# Altium footprint library F 发光管.PCBLIB: 40 footprints (part 2 of 3)
Each footprint in its own frame and in the unit in brackets; x right, y up, seen from the top. Pads: shape width x height; smd on the part's side, far side on the other; paste and mask are expansions set on the pad; w line width, h text height; cw(c..) or ccw(c..) is an arc to the next point about the centre after c.
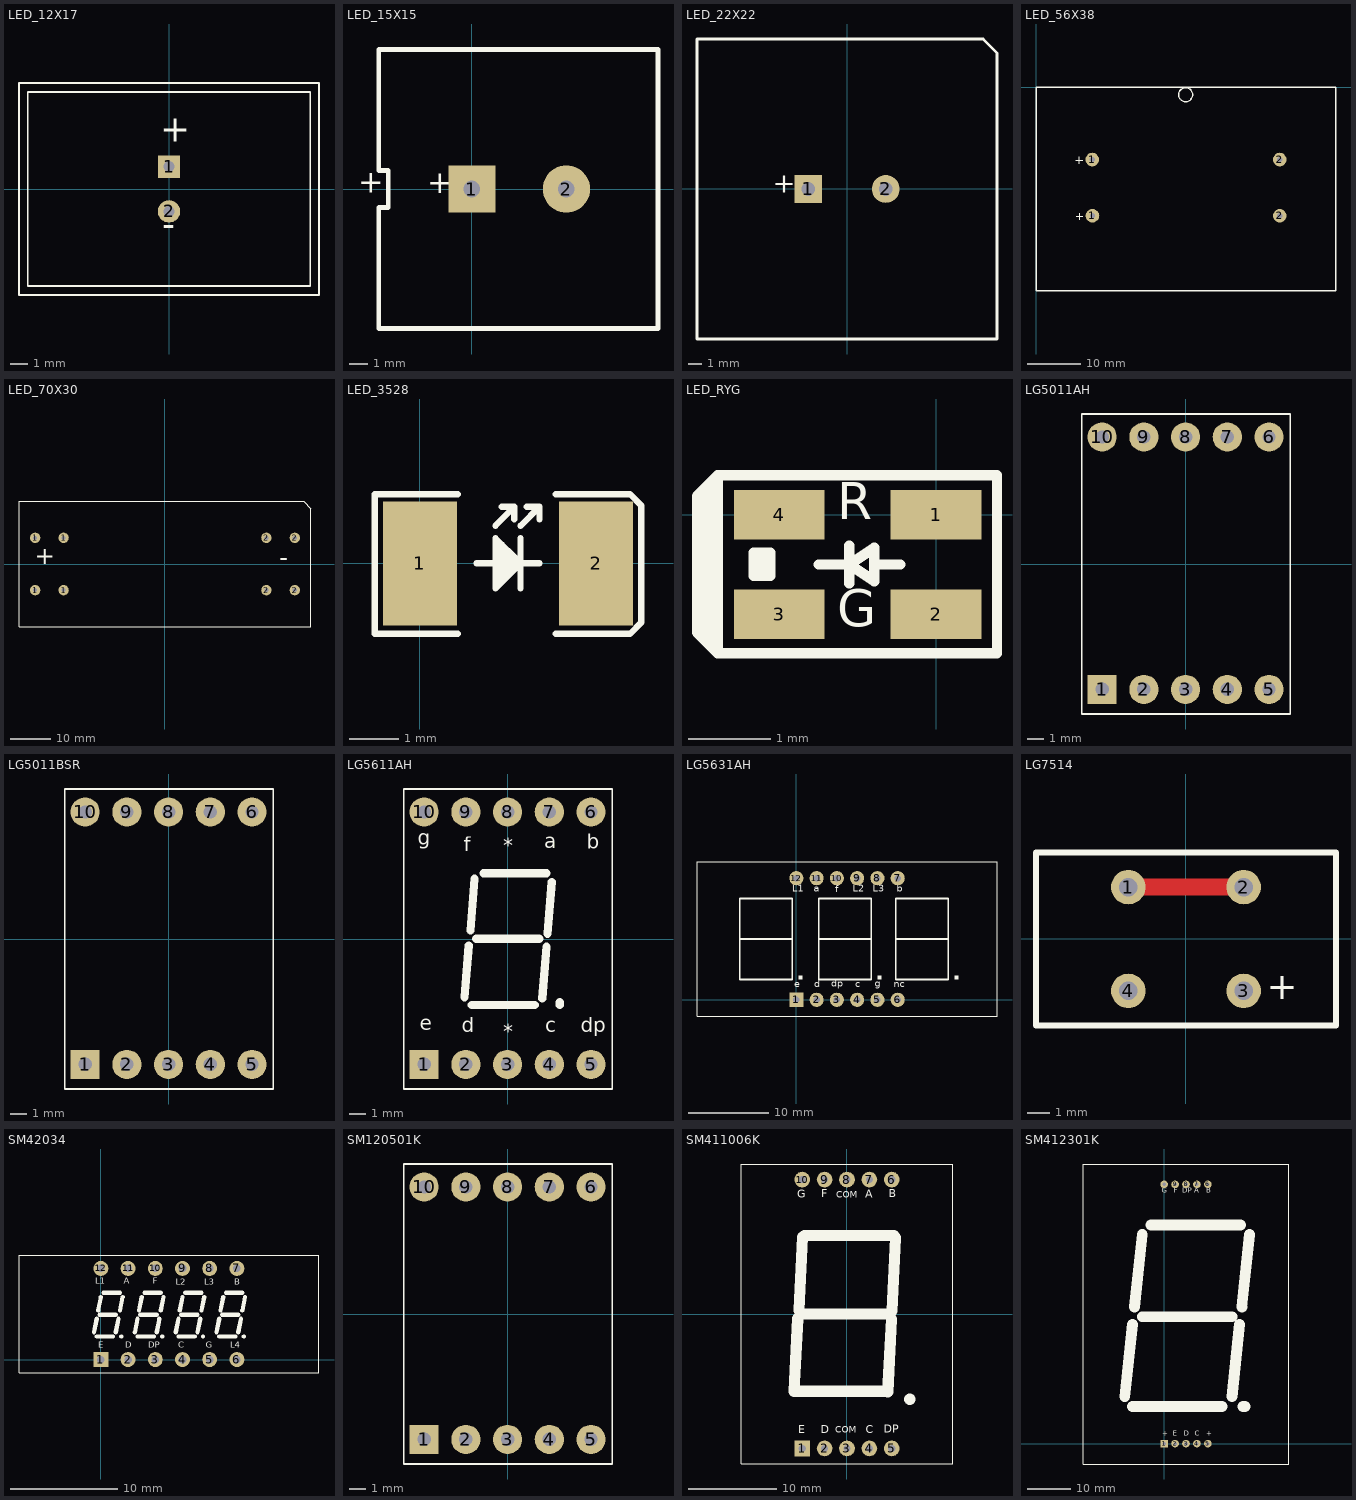
[diagram p1: the footprints below, top view; thin cyan lines are the x and y axes]

## LED_12X17 [mil] "平面发光管/长17mm/宽12mm/高10mm/"
height 393.7
pads (2):
  rect 50x50 hole 25: 1(0,50)
  round 50 hole 25: 2(0,-50)
Top Overlay:
  lines w4.02: -334.65,-236.22 -334.65,236.22 334.65,236.22 334.65,-236.22 -334.65,-236.22 ; -314.96,-216.54 -314.96,216.54 314.96,216.54 314.96,-216.54 -314.96,-216.54
  text "-" at -15,-125 h100
  text "+" at -20,85 h100

## LED_15X15 [mil] "平面发光管/长15mm/宽15mm/高11mm"
height 433.07
pads (2):
  rect 100x100 hole 35: 1(0,0)
  round 100 hole 35: 2(200,0)
Top Overlay:
  lines w10: -196.85,-295.28 -196.85,-39.37 -177.17,-39.37 -177.17,39.37 -196.85,39.37 -196.85,295.28 98.43,295.28 393.7,295.28 393.7,0 393.7,-295.28 98.43,-295.28 -196.85,-295.28
  text "+" at -95,-25 h80
  text "+" at -241,-24 h80
Bottom Overlay:
  text "+" at -62,-24 h80

## LED_22X22 [mil] "LED平面发光管/长22mm/宽22mm/高8mm"
height 314.96
pads (2):
  rect 80x80 hole 40: 1(-111.81,0)
  round 80 hole 40: 2(111.81,0)
Top Overlay:
  lines w7.87: -433.07,-433.07 433,-433.07 433,392 393,433 -433.07,433 -433.07,-433.07
  text "+" at -214,-31 h100
Bottom Overlay:
  text "+" at -173,-30 h100

## LED_56X38 [mm] "LED平面发光管/长56mm/宽38mm/高mm"
pads (4):
  round 2.54 hole 1: 1(10.5,-13.5) 1(10.541,-24) 2(45.5,-24) 2(45.5,-13.5)
Top Overlay:
  circle w0.254: c27.94,-1.397 r1.308
  lines w0.127: 7.452,-13.627 8.722,-13.627 ; 7.493,-24.127 8.763,-24.127 ; 8.087,-14.262 8.087,-12.992 ; 8.128,-24.762 8.128,-23.492
  lines w0.254: 0,-38 56,-38 56,0 0,0 0,-38

## LED_70X30 [mm] "平面发光管/长70mm/宽30mm/高8mm"
height 8
pads (8):
  round 2.54 hole 1: 1(-32,-6.45) 1(-32,6.45) 1(-25,-6.45) 1(-25,6.45) 2(25,-6.45) 2(25,6.45) 2(32,6.45) 2(32,-6.45)
Top Overlay:
  lines w0.254: -36,-15.45 -36,15.45 34.207,15.45 36,13.657 36,-15.45 -36,-15.45
  text "+" at -27.076,-1.524 h7.62
  text "-" at 30.353,-1.905 h7.62
Bottom Overlay:
  text "+" at -30.328,-1.499 h7.62
  text "-" at 28.499,-1.93 h7.62

## LED_3528 [mm] "贴片发光二极管/旧型号3528"
pads (2):
  rect 1.5x2.5 smd: 1(0,0) 2(3.556,0)
Top Overlay:
  lines w0.127: 0.762,-1.422 -0.914,-1.422 -0.914,1.397 0.762,1.397 ; 1.143,0 2.413,0 ; 1.524,0.762 1.905,1.143 ; 1.651,-0.381 1.651,0.381 ; 1.651,1.143 1.905,1.143 ; 1.778,-0.254 1.778,0.254 ; 1.905,-0.127 1.905,0.127 ; 1.905,0.889 1.905,1.143 ; 2.032,-0.508 2.032,0.508 ; 2.032,0.762 2.413,1.143 ; 2.159,1.143 2.413,1.143 ; 2.413,0.889 2.413,1.143 ; 2.743,-1.422 4.242,-1.422 4.47,-1.194 4.47,1.168 4.242,1.397 2.743,1.397 ; 1.524,-0.508 2.032,0 1.524,0.508 1.524,-0.508

## LED_RYG [mm] "发光二极管/双色/贴片"
pads (4):
  rect 1.1x0.6 smd: 1(0,0) 2(0,-1.2) 3(-1.9,-1.2) 4(-1.9,0)
Top Overlay:
  lines w0.127: -2.769,-1.549 -2.769,0.356 ; -2.108,-0.737 -2.108,-0.457 ; -1.422,-0.6 -1.05,-0.6 ; -1.05,-0.375 -1.05,-0.825 -1.05,-0.6 ; -0.75,-0.6 -0.432,-0.6 ; -2.642,-1.676 -2.642,0.483 ; -2.642,-1.676 0.737,-1.676 0.737,0.483 -2.642,0.483 ; -2.642,-1.676 -2.896,-1.422 -2.896,0.229 -2.642,0.483 ; -1.05,-0.6 -0.75,-0.4 -0.75,-0.8 -1.05,-0.6 ; -2.21,-0.737 -2.007,-0.737 -2.007,-0.457 -2.21,-0.457 -2.21,-0.737
  text "G" at -1.2,-1.5 h0.76
  text "R" at -1.2,-0.2 h0.76

## LG5011AH [mil] "8段1位数码管/共阴/红色"
height 179.92
pads (10):
  rect 70x70 hole 32: 1(-200,-300)
  round 70 hole 32: 2(-100,-300) 3(0,-300) 4(100,-300) 5(200,-300) 6(200,305) 7(100,305) 8(0,305) 9(-100,305) 10(-200,305)
Top Overlay:
  lines w4: -249,-359 251,-359 251,360 -249,360 -249,-358

## LG5011BSR [mil] "8段1位数码管/共阳/"
pads (10):
  rect 70x70 hole 32: 1(-200,-300)
  round 70 hole 32: 2(-100,-300) 3(0,-300) 4(100,-300) 5(200,-300) 6(200,305) 7(100,305) 8(0,305) 9(-100,305) 10(-200,305)
Top Overlay:
  lines w4: -249,-359 251,-359 251,360 -249,360 -249,-358

## LG5611AH [mil] "8段1位数码管/共阴/"
height 220.47
pads (10):
  rect 70x70 hole 32: 1(-200,-300)
  round 70 hole 32: 2(-100,-300) 3(0,-300) 4(100,-300) 5(200,-300) 6(200,305) 7(100,305) 8(0,305) 9(-100,305) 10(-200,305)
Top Overlay:
  lines w4: -249,-359 251,-359 251,360 -249,360 -249,-358
  lines w10: -50,0 50,0
  lines w19.68: -103,-139 -93,-15 ; -89,21 -79,145 ; -86,-158 65,-158 ; -75,1 -37.25,1 38.25,1 76,1 ; -58,158 93,158 ; 83,-142 93,-18 ; 96,13 106,137 ; 125,-158 125,-151
  text "e" at -210,-230 h60
  text "f" at -105,200 h60
  text "dp" at 175,-235 h60
  text "c" at 90,-235 h60
  text "d" at -110,-235 h60
  text "b" at 190,205 h60
  text "a" at 88,206 h60
  text "*" at -10,-250 h60
  text "*" at -10,195 h60
  text "g" at -215,215 h60

## LG5631AH [mil] "8段3位数码管/共阴"
pads (12):
  rect 70x70 hole 32: 1(0,0)
  round 70 hole 32: 2(100,0) 3(200,0) 4(300,0) 5(400,0) 6(500,0) 7(500,600) 8(400,600) 9(300,600) 10(200,600) 11(100,600) 12(0,600)
Top Overlay:
  rectangle: 780,99.99 800,119.99
  rectangle: 400,99.99 420,119.99
  rectangle: 10,99.99 30,119.99
  lines w4: -490,-80 -490,680
  lines w4.02: -490.16,-80 990,-80 ; -490,680 990,680
  lines w5: 990,-80 990,680
  lines w7.87: -280,300 -20,300 ; 110,300 370,300 ; 490,300 750,300 ; -280,100 -280,500 -20,500 -20,100 -280,100 ; 110,100 370,100 370,500 110,500 110,100 ; 490,100 750,100 750,500 490,500 490,100
  text "nc" at 480,49 h60
  text "a" at 87,520 h60
  text "b" at 496,520 h60
  text "e" at -11,50 h60
  text "d" at 88,50 h60
  text "dp" at 173,51 h60
  text "c" at 290,50 h60
  text "g" at 388,52 h60
  text "f" at 193,519 h60
  text "L1" at -20,520 h60
  text "L2" at 278,520 h60
  text "L3" at 376,520 h60

## LG7514 [mil]
pads (4):
  round 60 hole 32: 1(-100,90) 2(100,90) 3(100,-90) 4(-100,-90)
Top Layer:
  lines w30: -100,90 100,90
Top Overlay:
  lines w10: -260,-150 260,-150 260,150 -260,150 -260,-150
  text "+" at 140,-120 h80

## SM42034 [mm] "8段4位数码管/共阴/红色"
pads (12):
  rect 1.4x1.4 hole 0.7: 1(0,0)
  round 1.4 hole 0.7: 2(2.54,0) 3(5.08,0) 4(7.62,0) 5(10.16,0) 6(12.7,0) 7(12.7,8.5) 8(10.16,8.5) 9(7.62,8.5) 10(5.08,8.5) 11(2.54,8.5) 12(0,8.5)
Top Overlay:
  lines w0.102: -7.64,-1.25 -7.64,9.75 20.36,9.75 20.36,-1.25 -7.64,-1.25
  lines w0.381: 1.905,2.159 1.93,2.159 ; 5.715,2.159 5.74,2.159 ; 9.525,2.159 9.55,2.159 ; 13.335,2.159 13.36,2.159
  lines w0.4: -0.635,2.54 -0.381,3.81 ; -0.381,2.159 1.143,2.159 ; -0.254,4.572 0,5.842 ; -0.127,4.191 1.397,4.191 ; 0.254,6.223 1.778,6.223 ; 1.397,2.54 1.651,3.81 ; 1.778,4.572 2.032,5.842 ; 3.175,2.54 3.429,3.81 ; 3.429,2.159 4.953,2.159 ; 3.556,4.572 3.81,5.842 ; 3.683,4.191 5.207,4.191 ; 4.064,6.223 5.588,6.223 ; 5.207,2.54 5.461,3.81 ; 5.588,4.572 5.842,5.842 ; 6.985,2.54 7.239,3.81 ; 7.239,2.159 8.763,2.159 ; 7.366,4.572 7.62,5.842 ; 7.493,4.191 9.017,4.191 ; 7.874,6.223 9.398,6.223 ; 9.017,2.54 9.271,3.81 ; 9.398,4.572 9.652,5.842 ; 10.795,2.54 11.049,3.81 ; 11.049,2.159 12.573,2.159 ; 11.176,4.572 11.43,5.842 ; 11.303,4.191 12.827,4.191 ; 11.684,6.223 13.208,6.223 ; 12.827,2.54 13.081,3.81 ; 13.208,4.572 13.462,5.842
  text "L4" at 12.065,0.889 h1.02
  text "L3" at 9.652,6.731 h1.02
  text "C" at 7.239,0.889 h1.02
  text "E" at -0.254,0.889 h1.02
  text "DP" at 4.445,0.889 h1.02
  text "A" at 2.159,6.858 h1.02
  text "B" at 12.446,6.731 h1.02
  text "G" at 9.779,0.889 h1.02
  text "L1" at -0.508,6.858 h1.02
  text "L2" at 6.985,6.731 h1.02
  text "D" at 2.286,0.889 h1.02
  text "F" at 4.826,6.858 h1.02

## SM120501K [mil] "8段1位数码管/共阴"
pads (10):
  rect 70x70 hole 32: 1(-200,-300)
  round 70 hole 32: 2(-100,-300) 3(0,-300) 4(100,-300) 5(200,-300) 6(200,305) 7(100,305) 8(0,305) 9(-100,305) 10(-200,305)
Top Overlay:
  lines w4: -249,-359 251,-359 251,360 -249,360 -249,-358

## SM411006K [mil] "8段1位数码管/共阳/上下脚"
pads (10):
  rect 70x70 hole 32: 1(-200,-600)
  round 70 hole 32: 2(-100,-600) 3(0,-600) 4(100,-600) 5(200,-600) 6(200,600) 7(100,600) 8(0,600) 9(-100,600) 10(-200,600)
Top Overlay:
  lines w5: -472.44,-669.29 -472.44,669.29 472.44,669.29 472.44,-669.29 -472.44,-669.29
  lines w50: -220,-20 -235.86,-345.14 164.14,-345.14 ; -214.78,17 -198.9,342.63 ; -210,0 190,0 ; -190,350 210,350 ; 182.14,-347.14 198,-22 ; 201.12,14.37 217,340 ; 280,-380 281,-380
  text "DP" at 165,-543 h60
  text "C" at 83,-545 h60
  text "COM" at -52,-542 h50
  text "D" at -117,-545 h60
  text "E" at -217,-545 h60
  text "G" at -222,505 h60
  text "F" at -116,507 h60
  text "COM" at -48,507 h50
  text "A" at 82,506 h60
  text "B" at 187,507 h60
Bottom Overlay:
  text "COM" at 45,-545 h50
  text "D" at -90,-545 h60
  text "C" at 115,-545 h60
  text "E" at -190,-545 h60
  text "DP" at 230,-545 h60
  text "G" at -185,505 h60
  text "COM" at 50,505 h50
  text "A" at 120,506 h60
  text "B" at 215,505 h60
  text "F" at -90,505 h60

## SM412301K [mil] "数码管(1位)-共阳"
pads (10):
  rect 70x70 hole 32: 1(0,0)
  round 70 hole 32: 2(100,0) 3(200,0) 4(300,0) 5(400,0) 6(400,2370) 7(300,2370) 8(200,2370) 9(100,2370) 10(0,2370)
Top Overlay:
  lines w10: 100,1185 300,1185 ; -740,-186 -740,2556 1140,2556 1140,-186 -740,-186
  lines w100: -360,430 -290,1090 ; -290,340 530,340 ; -270,1250 -200,1910 ; -200,1160 620,1160 ; -120,2000 700,2000 ; 620,430 690,1090 ; 710,1250 780,1910 ; 720,340 740,340
  text "+" at -15,55 h80
  text "+" at 385,55 h80
  text "C" at 279,55 h80
  text "E" at 79,55 h80
  text "D" at 178,55 h80
  text "F" at 88,2276 h80
  text "B" at 384,2275 h80
  text "A" at 277,2276 h80
  text "DP" at 166,2275 h80
  text "G" at -23,2275 h80
Bottom Overlay:
  text "D" at 215,55 h80
  text "E" at 115,55 h80
  text "C" at 322,55 h80
  text "+" at 20,55 h80
  text "+" at 420,55 h80
  text "G" at 21,2275 h80
  text "DP" at 241,2275 h80
  text "A" at 322,2274 h80
  text "B" at 415,2275 h80
  text "F" at 115,2275 h80